# Altium footprint library switch.PcbLib: 3 footprints
Each footprint in its own frame and in the unit in brackets; x right, y up, seen from the top. Pads: shape width x height; smd on the part's side, far side on the other; paste and mask are expansions set on the pad; w line width, h text height; cw(c..) or ccw(c..) is an arc to the next point about the centre after c.
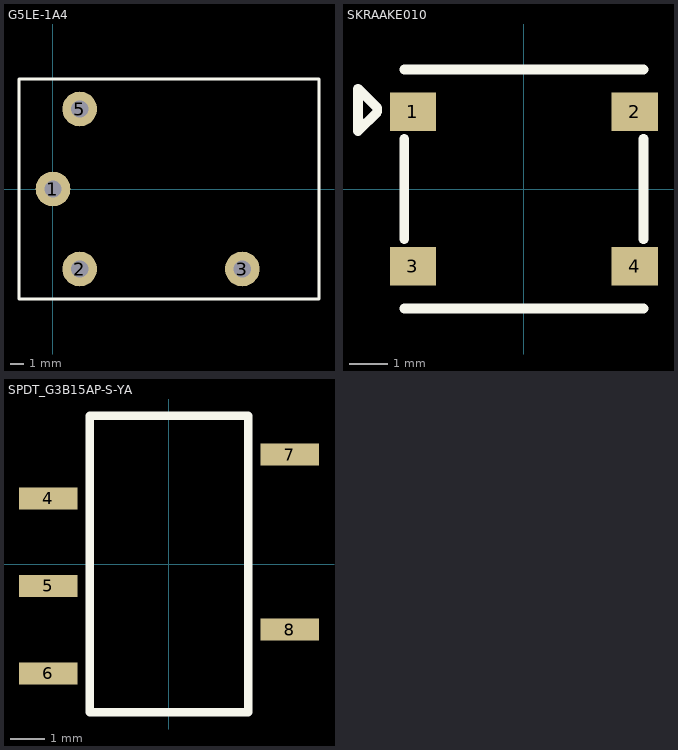
[diagram p0: the footprints below, top view; thin cyan lines are the x and y axes]

## G5LE-1A4 [mm]
pads (4):
  round 2.6 hole 1.3: 1(0,0) 2(2,-6) 3(14.2,-6) 5(2,6)
Top Overlay:
  lines w0.254: -2.55,-8.25 -2.55,8.25 19.95,8.25 19.95,-8.25 -2.55,-8.25
3D body "G5LE_1A4.step": height 19, standoff -3.5, extent -2.55,-8.25 19.95,8.25

## SKRAAKE010 [mm]
pads (4):
  rect 1.2x1 smd: 1(-2.875,2) 2(2.875,2) 3(-2.875,-2) 4(2.875,-2)
Top Overlay:
  lines w0.254: -3.1,-3.1 3.1,-3.1 ; -3.1,-1.3 -3.1,1.3 ; -3.1,3.1 3.1,3.1 ; 3.1,-1.3 3.1,1.3 ; -4.3,2.4 -4.3,1.5 -3.8,2 -3.8,2.1 -4.3,2.6 -4.3,2.4 ; -4.3,2.4 -4.3,2.4
3D body "skra_l6-8_w6-2_h3-4.stp": height 3.4, standoff -0.1, extent -3.2,-3.371 3.2,3.372

## SPDT_G3B15AP-S-YA [mm]
pads (5):
  rect 1.7x0.635 smd: 4(-3.5,1.905) 5(-3.5,-0.635) 6(-3.5,-3.175) 7(3.5,3.175) 8(3.5,-1.905)
Top Overlay:
  lines w0.254: -2.3,-4.3 2.3,-4.3 2.3,4.3 -2.3,4.3 -2.3,-4.3
3D body "G3B15AP-S-YA.stp": height 12.91, standoff 0.01, extent -3.797,-4.254 3.797,4.255